# Altium footprint library HRS Footprints.PcbLib: 48 footprints (part 1 of 3)
Each footprint in its own frame and in the unit in brackets; x right, y up, seen from the top. Pads: shape width x height; smd on the part's side, far side on the other; paste and mask are expansions set on the pad; w line width, h text height; cw(c..) or ccw(c..) is an arc to the next point about the centre after c.
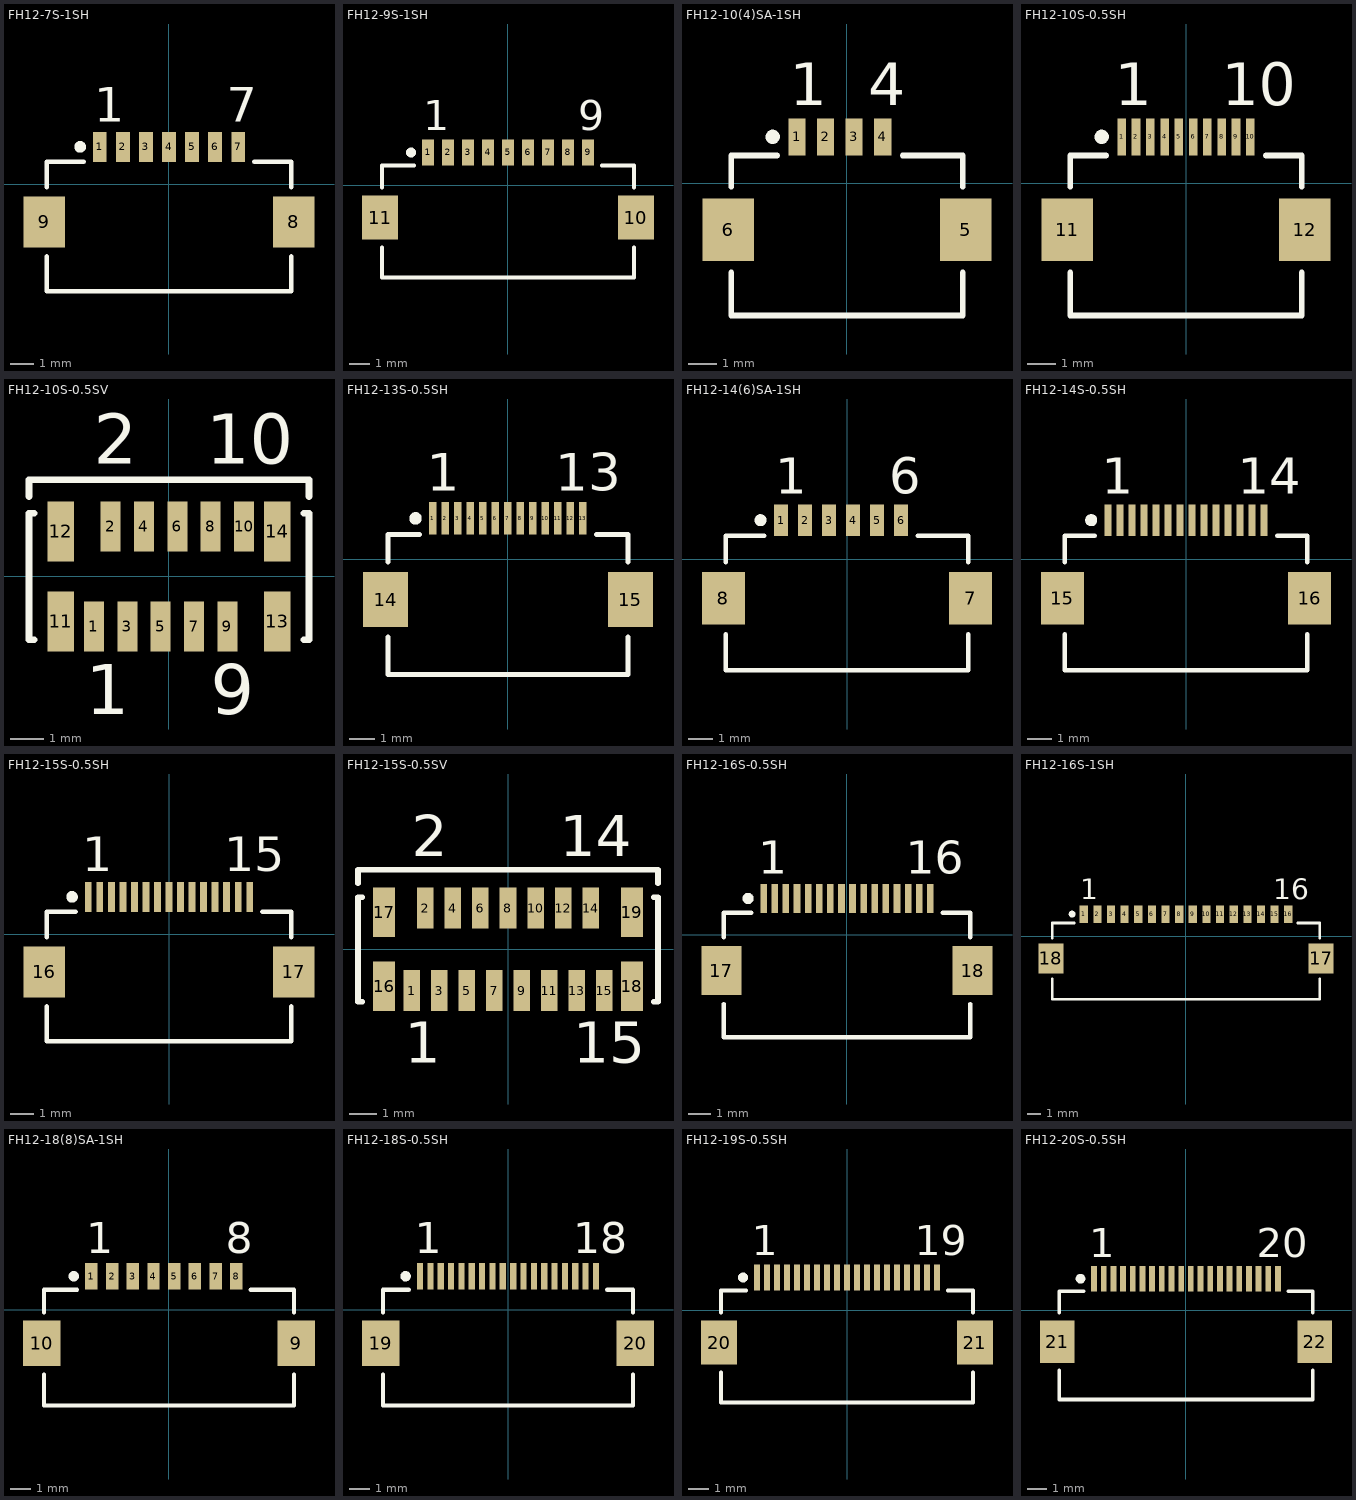
[diagram p0: the footprints below, top view; thin cyan lines are the x and y axes]

## FH12-7S-1SH [mm] "Connector; FH12 Series; 7 Position; 1.0mm Spaced Bottom Standard Contact"
height 2
pads (9):
  rect 0.6x1.3 smd: 1(-3,1.625) 2(-2,1.625) 3(-1,1.625) 4(0,1.625) 5(1,1.625) 6(2,1.625) 7(3,1.625)
  rect 1.8x2.2 smd: 8(5.4,-1.625) 9(-5.4,-1.625)
Top Overlay:
  circle w0.25: c-3.85,1.625 r0.125
  lines w0.2: -5.3,-3.125 -5.3,-4.625 5.3,-4.625 5.3,-3.125 ; -5.3,-0.125 -5.3,0.975 -3.7,0.975 ; 3.7,0.975 5.3,0.975 5.3,-0.125
  text "7" at 2.5,2.725 h1.5
  text "1" at -3.25,2.725 h1.5

## FH12-9S-1SH [mm] "Connector; FH12 Series; 9 Position; 1.0mm Spaced Bottom Standard Contact"
height 2
pads (11):
  rect 0.6x1.3 smd: 1(-4,1.625) 2(-3,1.625) 3(-2,1.625) 4(-1,1.625) 5(0,1.625) 6(1,1.625) 7(2,1.625) 8(3,1.625) 9(4,1.625)
  rect 1.8x2.2 smd: 10(6.4,-1.625) 11(-6.4,-1.625)
Top Overlay:
  circle w0.25: c-4.85,1.625 r0.125
  lines w0.2: -6.3,-3.125 -6.3,-4.625 6.3,-4.625 6.3,-3.125 ; -6.3,-0.125 -6.3,0.975 -4.7,0.975 ; 4.7,0.975 6.3,0.975 6.3,-0.125
  text "9" at 3.5,2.725 h1.5
  text "1" at -4.25,2.725 h1.5

## FH12-10(4)SA-1SH [mm] "Connector; FH12 Series; 4 Position; 1.0mm Spaced Bottom Eccentric Contact"
height 2
pads (6):
  rect 0.6x1.3 smd: 1(-1.75,1.625) 2(-0.75,1.625) 3(0.25,1.625) 4(1.25,1.625)
  rect 1.8x2.2 smd: 5(4.15,-1.625) 6(-4.15,-1.625)
Top Overlay:
  circle w0.25: c-2.6,1.625 r0.125
  lines w0.2: -4.05,-3.125 -4.05,-4.625 4.05,-4.625 4.05,-3.125 ; -4.05,-0.125 -4.05,0.975 -2.45,0.975 ; 1.95,0.975 4.05,0.975 4.05,-0.125
  text "1" at -2,2.725 h1.5
  text "4" at 0.75,2.725 h1.5

## FH12-10S-0.5SH [mm] "Connector; FH12 Series; 10 Position; 0.5mm Spaced Bottom Contact"
height 2
pads (12):
  rect 0.3x1.3 smd: 1(-2.25,1.625) 2(-1.75,1.625) 3(-1.25,1.625) 4(-0.75,1.625) 5(-0.25,1.625) 6(0.25,1.625) 7(0.75,1.625) 8(1.25,1.625) 9(1.75,1.625) 10(2.25,1.625)
  rect 1.8x2.2 smd: 11(-4.15,-1.625) 12(4.15,-1.625)
Top Overlay:
  circle w0.25: c-2.95,1.625 r0.125
  lines w0.2: -4.05,-3.125 -4.05,-4.625 4.05,-4.625 4.05,-3.125 ; -4.05,-0.125 -4.05,0.975 -2.8,0.975 ; 2.8,0.975 4.05,0.975 4.05,-0.125
  text "1" at -2.5,2.725 h1.5
  text "10" at 1.25,2.725 h1.5

## FH12-10S-0.5SV [mm] "Connector; FH12 Series; 10 Position; 0.5mm Spaced Vertical Mounting"
height 4.85
pads (14):
  rect 0.6x1.5 smd: 1(-2.25,-1.5) 2(-1.75,1.5) 3(-1.25,-1.5) 4(-0.75,1.5) 5(-0.25,-1.5) 6(0.25,1.5) 7(0.75,-1.5) 8(1.25,1.5) 9(1.75,-1.5) 10(2.25,1.5)
  rect 0.8x1.8 smd: 11(-3.25,-1.35) 12(-3.25,1.35) 13(3.25,-1.35) 14(3.25,1.35)
Top Overlay:
  lines w0.2: -4.2,2.4 -4.2,2.9 4.2,2.9 4.2,2.4 ; -4.05,-1.9 -4.2,-1.9 -4.2,1.9 -4.05,1.9 ; 4.05,-1.9 4.2,-1.9 4.2,1.9 4.05,1.9
  text "9" at 1.25,-4.125 h1.5
  text "10" at 1.125,3.375 h1.5
  text "1" at -2.5,-4.125 h1.5
  text "2" at -2.25,3.375 h1.5

## FH12-13S-0.5SH [mm] "Connector; FH12 Series; 13 Position; 0.5mm Spaced Bottom Contact"
height 2
pads (15):
  rect 0.3x1.3 smd: 1(-3,1.625) 2(-2.5,1.625) 3(-2,1.625) 4(-1.5,1.625) 5(-1,1.625) 6(-0.5,1.625) 7(0,1.625) 8(0.5,1.625) 9(1,1.625) 10(1.5,1.625) 11(2,1.625) 12(2.5,1.625) 13(3,1.625)
  rect 1.8x2.2 smd: 14(-4.9,-1.625) 15(4.9,-1.625)
Top Overlay:
  circle w0.25: c-3.7,1.625 r0.125
  lines w0.2: -4.8,-3.125 -4.8,-4.625 4.8,-4.625 4.8,-3.125 ; -4.8,-0.125 -4.8,0.975 -3.55,0.975 ; 3.55,0.975 4.8,0.975 4.8,-0.125
  text "13" at 1.9,2.725 h1.5
  text "1" at -3.25,2.725 h1.5

## FH12-14(6)SA-1SH [mm] "Connector; FH12 Series; 6 Position; 1.0mm Spaced Bottom Eccentric Contact"
height 2
pads (8):
  rect 0.6x1.3 smd: 1(-2.75,1.625) 2(-1.75,1.625) 3(-0.75,1.625) 4(0.25,1.625) 5(1.25,1.625) 6(2.25,1.625)
  rect 1.8x2.2 smd: 7(5.15,-1.625) 8(-5.15,-1.625)
Top Overlay:
  circle w0.25: c-3.6,1.625 r0.125
  lines w0.2: -5.05,-3.125 -5.05,-4.625 5.05,-4.625 5.05,-3.125 ; -5.05,-0.125 -5.05,0.975 -3.45,0.975 ; 2.95,0.975 5.05,0.975 5.05,-0.125
  text "6" at 1.75,2.725 h1.5
  text "1" at -3,2.725 h1.5

## FH12-14S-0.5SH [mm] "Connector; FH12 Series; 14 Position; 0.5mm Spaced Bottom Contact"
height 2
pads (16):
  rect 0.3x1.3 smd: 1(-3.25,1.625) 2(-2.75,1.625) 3(-2.25,1.625) 4(-1.75,1.625) 5(-1.25,1.625) 6(-0.75,1.625) 7(-0.25,1.625) 8(0.25,1.625) 9(0.75,1.625) 10(1.25,1.625) 11(1.75,1.625) 12(2.25,1.625) 13(2.75,1.625) 14(3.25,1.625)
  rect 1.8x2.2 smd: 15(-5.15,-1.625) 16(5.15,-1.625)
Top Overlay:
  circle w0.25: c-3.95,1.625 r0.125
  lines w0.2: -5.05,-3.125 -5.05,-4.625 5.05,-4.625 5.05,-3.125 ; -5.05,-0.125 -5.05,0.975 -3.8,0.975 ; 3.8,0.975 5.05,0.975 5.05,-0.125
  text "1" at -3.5,2.725 h1.5
  text "14" at 2.15,2.725 h1.5

## FH12-15S-0.5SH [mm] "Connector; FH12 Series; 15 Position; 0.5mm Spaced Bottom Contact"
height 2
pads (17):
  rect 0.3x1.3 smd: 1(-3.5,1.625) 2(-3,1.625) 3(-2.5,1.625) 4(-2,1.625) 5(-1.5,1.625) 6(-1,1.625) 7(-0.5,1.625) 8(0,1.625) 9(0.5,1.625) 10(1,1.625) 11(1.5,1.625) 12(2,1.625) 13(2.5,1.625) 14(3,1.625) 15(3.5,1.625)
  rect 1.8x2.2 smd: 16(-5.4,-1.625) 17(5.4,-1.625)
Top Overlay:
  circle w0.25: c-4.2,1.625 r0.125
  lines w0.2: -5.3,-3.125 -5.3,-4.625 5.3,-4.625 5.3,-3.125 ; -5.3,-0.125 -5.3,0.975 -4.05,0.975 ; 4.05,0.975 5.3,0.975 5.3,-0.125
  text "1" at -3.75,2.725 h1.5
  text "15" at 2.4,2.725 h1.5

## FH12-15S-0.5SV [mm] "Connector; FH12 Series; 15 Position; 0.5mm Spaced Vertical Mounting"
height 4.85
pads (19):
  rect 0.6x1.5 smd: 1(-3.5,-1.5) 2(-3,1.5) 3(-2.5,-1.5) 4(-2,1.5) 5(-1.5,-1.5) 6(-1,1.5) 7(-0.5,-1.5) 8(0,1.5) 9(0.5,-1.5) 10(1,1.5) 11(1.5,-1.5) 12(2,1.5) 13(2.5,-1.5) 14(3,1.5) 15(3.5,-1.5)
  rect 0.8x1.8 smd: 16(-4.5,-1.35) 17(-4.5,1.35) 18(4.5,-1.35) 19(4.5,1.35)
Top Overlay:
  lines w0.2: -5.45,2.4 -5.45,2.9 5.45,2.9 5.45,2.4 ; -5.3,-1.9 -5.45,-1.9 -5.45,1.9 -5.3,1.9 ; 5.3,-1.9 5.45,-1.9 5.45,1.9 5.3,1.9
  text "14" at 1.875,3.375 h1.5
  text "1" at -3.75,-4.125 h1.5
  text "2" at -3.5,3.375 h1.5
  text "15" at 2.375,-4.125 h1.5

## FH12-16S-0.5SH [mm] "Connector; FH12 Series; 16 Position; 0.5mm Spaced Bottom Contact"
height 2
pads (18):
  rect 0.3x1.3 smd: 1(-3.75,1.625) 2(-3.25,1.625) 3(-2.75,1.625) 4(-2.25,1.625) 5(-1.75,1.625) 6(-1.25,1.625) 7(-0.75,1.625) 8(-0.25,1.625) 9(0.25,1.625) 10(0.75,1.625) 11(1.25,1.625) 12(1.75,1.625) 13(2.25,1.625) 14(2.75,1.625) 15(3.25,1.625) 16(3.75,1.625)
  rect 1.8x2.2 smd: 17(-5.65,-1.625) 18(5.65,-1.625)
Top Overlay:
  circle w0.25: c-4.45,1.625 r0.125
  lines w0.2: -5.55,-3.125 -5.55,-4.625 5.55,-4.625 5.55,-3.125 ; -5.55,-0.125 -5.55,0.975 -4.3,0.975 ; 4.3,0.975 5.55,0.975 5.55,-0.125
  text "1" at -4,2.725 h1.5
  text "16" at 2.65,2.725 h1.5

## FH12-16S-1SH [mm] "Connector; FH12 Series; 16 Position; 1.0mm Spaced Bottom Standard Contact"
height 2
pads (18):
  rect 0.6x1.3 smd: 1(-7.5,1.625) 2(-6.5,1.625) 3(-5.5,1.625) 4(-4.5,1.625) 5(-3.5,1.625) 6(-2.5,1.625) 7(-1.5,1.625) 8(-0.5,1.625) 9(0.5,1.625) 10(1.5,1.625) 11(2.5,1.625) 12(3.5,1.625) 13(4.5,1.625) 14(5.5,1.625) 15(6.5,1.625) 16(7.5,1.625)
  rect 1.8x2.2 smd: 17(9.9,-1.625) 18(-9.9,-1.625)
Top Overlay:
  circle w0.25: c-8.35,1.625 r0.125
  lines w0.2: -9.8,-3.125 -9.8,-4.625 9.8,-4.625 9.8,-3.125 ; -9.8,-0.125 -9.8,0.975 -8.2,0.975 ; 8.2,0.975 9.8,0.975 9.8,-0.125
  text "16" at 6.4,2.725 h1.5
  text "1" at -7.75,2.725 h1.5

## FH12-18(8)SA-1SH [mm] "Connector; FH12 Series; 8 Position; 1.0mm Spaced Bottom Eccentric Contact"
height 2
pads (10):
  rect 0.6x1.3 smd: 1(-3.75,1.625) 2(-2.75,1.625) 3(-1.75,1.625) 4(-0.75,1.625) 5(0.25,1.625) 6(1.25,1.625) 7(2.25,1.625) 8(3.25,1.625)
  rect 1.8x2.2 smd: 9(6.15,-1.625) 10(-6.15,-1.625)
Top Overlay:
  circle w0.25: c-4.6,1.625 r0.125
  lines w0.2: -6.05,-3.125 -6.05,-4.625 6.05,-4.625 6.05,-3.125 ; -6.05,-0.125 -6.05,0.975 -4.45,0.975 ; 3.95,0.975 6.05,0.975 6.05,-0.125
  text "8" at 2.75,2.725 h1.5
  text "1" at -4,2.725 h1.5

## FH12-18S-0.5SH [mm] "Connector; FH12 Series; 18 Position; 0.5mm Spaced Bottom Contact"
height 2
pads (20):
  rect 0.3x1.3 smd: 1(-4.25,1.625) 2(-3.75,1.625) 3(-3.25,1.625) 4(-2.75,1.625) 5(-2.25,1.625) 6(-1.75,1.625) 7(-1.25,1.625) 8(-0.75,1.625) 9(-0.25,1.625) 10(0.25,1.625) 11(0.75,1.625) 12(1.25,1.625) 13(1.75,1.625) 14(2.25,1.625) 15(2.75,1.625) 16(3.25,1.625) 17(3.75,1.625) 18(4.25,1.625)
  rect 1.8x2.2 smd: 19(-6.15,-1.625) 20(6.15,-1.625)
Top Overlay:
  circle w0.25: c-4.95,1.625 r0.125
  lines w0.2: -6.05,-3.125 -6.05,-4.625 6.05,-4.625 6.05,-3.125 ; -6.05,-0.125 -6.05,0.975 -4.8,0.975 ; 4.8,0.975 6.05,0.975 6.05,-0.125
  text "1" at -4.5,2.725 h1.5
  text "18" at 3.15,2.725 h1.5

## FH12-19S-0.5SH [mm] "Connector; FH12 Series; 19 Position; 0.5mm Spaced Bottom Contact"
height 2
pads (21):
  rect 0.3x1.3 smd: 1(-4.5,1.625) 2(-4,1.625) 3(-3.5,1.625) 4(-3,1.625) 5(-2.5,1.625) 6(-2,1.625) 7(-1.5,1.625) 8(-1,1.625) 9(-0.5,1.625) 10(0,1.625) 11(0.5,1.625) 12(1,1.625) 13(1.5,1.625) 14(2,1.625) 15(2.5,1.625) 16(3,1.625) 17(3.5,1.625) 18(4,1.625) 19(4.5,1.625)
  rect 1.8x2.2 smd: 20(-6.4,-1.625) 21(6.4,-1.625)
Top Overlay:
  circle w0.25: c-5.2,1.625 r0.125
  lines w0.2: -6.3,-3.125 -6.3,-4.625 6.3,-4.625 6.3,-3.125 ; -6.3,-0.125 -6.3,0.975 -5.05,0.975 ; 5.05,0.975 6.3,0.975 6.3,-0.125
  text "19" at 3.4,2.725 h1.5
  text "1" at -4.75,2.725 h1.5

## FH12-20S-0.5SH [mm] "Connector; FH12 Series; 20 Position; 0.5mm Spaced Bottom Contact"
height 2
pads (22):
  rect 0.3x1.3 smd: 1(-4.75,1.625) 2(-4.25,1.625) 3(-3.75,1.625) 4(-3.25,1.625) 5(-2.75,1.625) 6(-2.25,1.625) 7(-1.75,1.625) 8(-1.25,1.625) 9(-0.75,1.625) 10(-0.25,1.625) 11(0.25,1.625) 12(0.75,1.625) 13(1.25,1.625) 14(1.75,1.625) 15(2.25,1.625) 16(2.75,1.625) 17(3.25,1.625) 18(3.75,1.625) 19(4.25,1.625) 20(4.75,1.625)
  rect 1.8x2.2 smd: 21(-6.65,-1.625) 22(6.65,-1.623)
Top Overlay:
  circle w0.25: c-5.45,1.625 r0.125
  lines w0.2: -6.55,-3.123 -6.55,-4.623 6.55,-4.623 6.55,-3.123 ; -6.55,-0.123 -6.55,0.977 -5.3,0.977 ; 5.3,0.977 6.55,0.977 6.55,-0.123
  text "1" at -5,2.725 h1.5
  text "20" at 3.65,2.725 h1.5